# EAGLE library part LTC2990IMSPBF (library Deegou_IC)
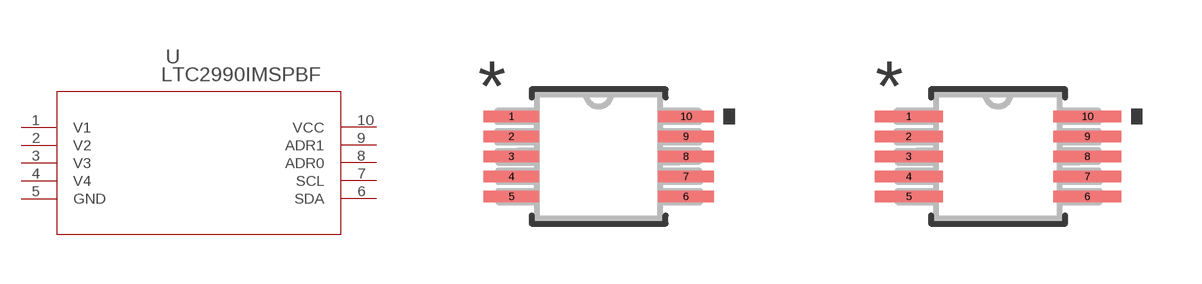
[diagram p27: symbol with the pads of MSOP-10_MS; footprints MSOP-10_MS, MSOP-10_MS-M]

Designator prefix U

## LTC2990IMSPBF (MANUFACTURER_PART_NUMBER: LTC2990IMS#PBF; VENDOR: Linear Technology)  [MSOP-10_MS]
1  V1  in
2  V2  in
3  V3  in
4  V4  in
5  GND  pwr
6  SDA
7  SCL  in
8  ADR0  in
9  ADR1  in
10  VCC  pwr

## LTC2990IMSPBFMSOP-10_MS-M (MANUFACTURER_PART_NUMBER: LTC2990IMS#PBF; VENDOR: Linear Technology)  [MSOP-10_MS-M]
Pads as for MSOP-10_MS

## LTC2990IMSPBFMSOP-10_MS-L (MANUFACTURER_PART_NUMBER: LTC2990IMS#PBF; VENDOR: Linear Technology)  [MSOP-10_MS-L]
Pads as for MSOP-10_MS

## Footprint MSOP-10_MS (pad centres in mm)
smd 1.397 x 0.279: 1 -2.184,1.001; 2 -2.184,0.5; 3 -2.184,0; 4 -2.184,-0.5; 5 -2.184,-1.001; 6 2.184,-1.001; 7 2.184,-0.5; 8 2.184,0; 9 2.184,0.5; 10 2.184,1.001

## Footprint MSOP-10_MS-M (pad centres in mm)
smd 1.702 x 0.279: 1 -2.235,1.001; 2 -2.235,0.5; 3 -2.235,0; 4 -2.235,-0.5; 5 -2.235,-1.001; 6 2.235,-1.001; 7 2.235,-0.5; 8 2.235,0; 9 2.235,0.5; 10 2.235,1.001

## Footprint MSOP-10_MS-L (pad centres in mm)
smd 1.092 x 0.279: 1 -2.134,1.001; 2 -2.134,0.5; 3 -2.134,0; 4 -2.134,-0.5; 5 -2.134,-1.001; 6 2.134,-1.001; 7 2.134,-0.5; 8 2.134,0; 9 2.134,0.5; 10 2.134,1.001